# EAGLE library part GEC20DABN-M30 (library con-sullins)
HEADER - Vertical
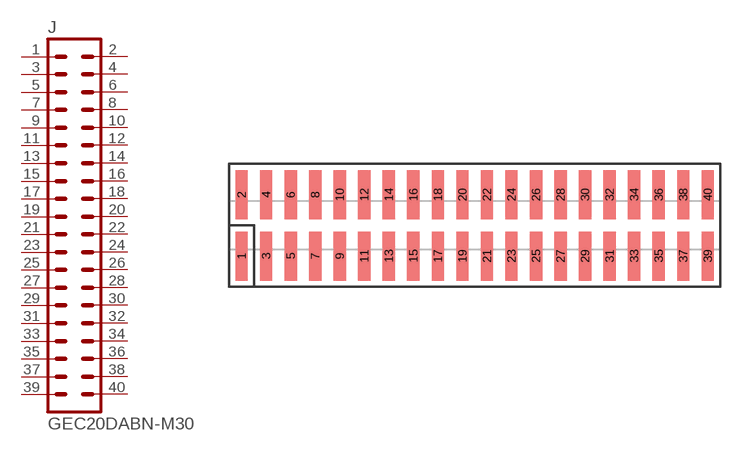
[diagram p16: symbol with the pads of GXC20; footprint GXC20]

Designator prefix J

## GEC20DABN-M30  [GXC20]
1  1  pas
2  2  pas
3  3  pas
4  4  pas
5  5  pas
6  6  pas
7  7  pas
8  8  pas
9  9  pas
10  10  pas
11  11  pas
12  12  pas
13  13  pas
14  14  pas
15  15  pas
16  16  pas
17  17  pas
18  18  pas
19  19  pas
20  20  pas
21  21  pas
22  22  pas
23  23  pas
24  24  pas
25  25  pas
26  26  pas
27  27  pas
28  28  pas
29  29  pas
30  30  pas
31  31  pas
32  32  pas
33  33  pas
34  34  pas
35  35  pas
36  36  pas
37  37  pas
38  38  pas
39  39  pas
40  40  pas

## Footprint GXC20 (pad centres in mm)
SMD HEADER - 0.1", Vertical
smd 1.27 x 5.08: 1 -24.13,-3.175; 2 -24.13,3.175; 3 -21.59,-3.175; 4 -21.59,3.175; 5 -19.05,-3.175; 6 -19.05,3.175; 7 -16.51,-3.175; 8 -16.51,3.175; 9 -13.97,-3.175; 10 -13.97,3.175; 11 -11.43,-3.175; 12 -11.43,3.175; 13 -8.89,-3.175; 14 -8.89,3.175; 15 -6.35,-3.175; 16 -6.35,3.175; 17 -3.81,-3.175; 18 -3.81,3.175; 19 -1.27,-3.175; 20 -1.27,3.175; 21 1.27,-3.175; 22 1.27,3.175; 23 3.81,-3.175; 24 3.81,3.175; 25 6.35,-3.175; 26 6.35,3.175; 27 8.89,-3.175; 28 8.89,3.175; 29 11.43,-3.175; 30 11.43,3.175; 31 13.97,-3.175; 32 13.97,3.175; 33 16.51,-3.175; 34 16.51,3.175; 35 19.05,-3.175; 36 19.05,3.175; 37 21.59,-3.175; 38 21.59,3.175; 39 24.13,-3.175; 40 24.13,3.175